# Altium schematic symbol library bibla.SchLib: 1 symbol
Pins are listed as number, name and electrical type; pins without a type are passive.

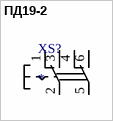
[diagram p0: symbol ПД19-2]

## ПД19-2
designator XS?
footprint ПД19-2
pins: 1, 2, 3, 4, 5, 6